# Altium schematic symbol library Relais.SchLib: 1 symbol
Pins are listed as number, name and electrical type; pins without a type are passive.

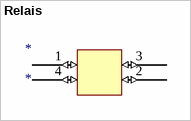
[diagram p0: symbol Relais]

## Relais
designator *
footprint Relais
pins: 1 (io), 2 (io), 3 (io), 4 (io)